# Altium schematic symbol library WP-SMRT.SchLib: 16 symbols
Pins are listed as number, name and electrical type; pins without a type are passive.

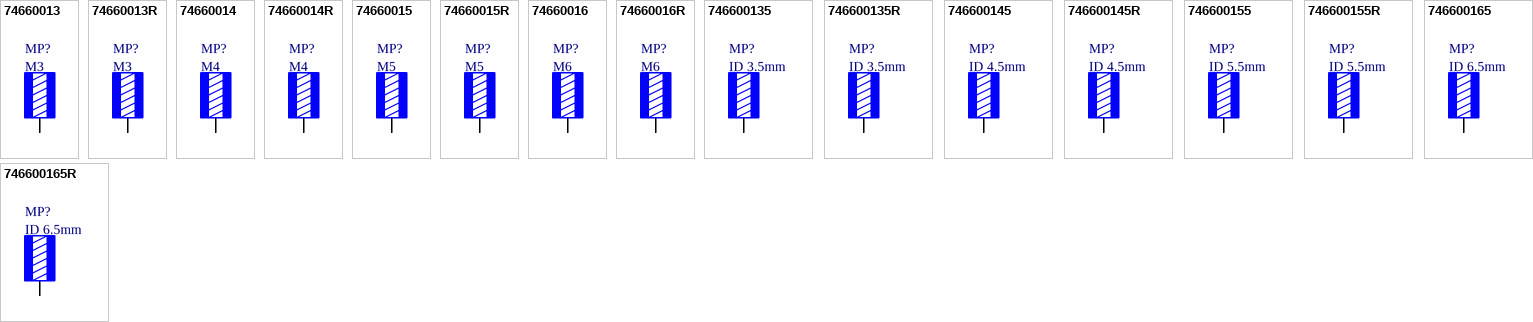
[diagram p0: symbols 74660013 to 746600165R]

## 74660013
designator MP?, comment M3
WP-SMRT REDCUBE SMT Reverse with internal thread, OD 10mm, M3, 85A; Manufacturer Part Number: 74660013; Manufacturer: Wurth Elektronik; Surface: Tin; Category: REDCUBE SMT; Match Code: WP-SMRT; ComponentLink1Description: Website Link; ComponentLink1URL: https://www.we-online.com/redexpert/article/74660013?ad; ComponentLink2Description: Datasheet Link; ComponentLink2URL: https://www.we-online.com/redexpert/spec/74660013?ad; Mount: Surface Mount; Min Operating Temperature: -55°C; Max Operating Temperature: 150°C; Packaging: Bulk; Height: 5.6mm; Material: Brass; Outer Diameter: 10mm; Rated Current: 85A; Thread Size: M3
footprint 74660013
pins: 1

## 74660013R
designator MP?, comment M3
WP-SMRT REDCUBE SMT Reverse with internal thread, OD 10mm, M3, 85A; Manufacturer Part Number: 74660013R; Manufacturer: Wurth Elektronik; Surface: Tin; Category: REDCUBE SMT; Match Code: WP-SMRT; ComponentLink1Description: Website Link; ComponentLink1URL: https://www.we-online.com/redexpert/article/74660013R?ad; ComponentLink2Description: Datasheet Link; ComponentLink2URL: https://www.we-online.com/redexpert/spec/74660013R?ad; Mount: Surface Mount; Min Operating Temperature: -55°C; Max Operating Temperature: 150°C; Packaging: Tape and Reel; Height: 5.6mm; Material: Brass; Outer Diameter: 10mm; Rated Current: 85A; Thread Size: M3
footprint 74660013
pins: 1

## 74660014
designator MP?, comment M4
WP-SMRT REDCUBE SMT Reverse with internal thread, OD 10mm, M4, 85A; Manufacturer Part Number: 74660014; Manufacturer: Wurth Elektronik; Surface: Tin; Category: REDCUBE SMT; Match Code: WP-SMRT; ComponentLink1Description: Website Link; ComponentLink1URL: https://www.we-online.com/redexpert/article/74660014?ad; ComponentLink2Description: Datasheet Link; ComponentLink2URL: https://www.we-online.com/redexpert/spec/74660014?ad; Mount: Surface Mount; Min Operating Temperature: -55°C; Max Operating Temperature: 150°C; Packaging: Bulk; Height: 5.6mm; Material: Brass; Outer Diameter: 10mm; Rated Current: 85A; Thread Size: M4
footprint 74660014
pins: 1

## 74660014R
designator MP?, comment M4
WP-SMRT REDCUBE SMT Reverse with internal thread, OD 10mm, M4, 85A; Manufacturer Part Number: 74660014R; Manufacturer: Wurth Elektronik; Surface: Tin; Category: REDCUBE SMT; Match Code: WP-SMRT; ComponentLink1Description: Website Link; ComponentLink1URL: https://www.we-online.com/redexpert/article/74660014R?ad; ComponentLink2Description: Datasheet Link; ComponentLink2URL: https://www.we-online.com/redexpert/spec/74660014R?ad; Mount: Surface Mount; Min Operating Temperature: -55°C; Max Operating Temperature: 150°C; Packaging: Tape and Reel; Height: 5.6mm; Material: Brass; Outer Diameter: 10mm; Rated Current: 85A; Thread Size: M4
footprint 74660014
pins: 1

## 74660015
designator MP?, comment M5
WP-SMRT REDCUBE SMT Reverse with internal thread, OD 10mm, M5, 85A; Manufacturer Part Number: 74660015; Manufacturer: Wurth Elektronik; Surface: Tin; Category: REDCUBE SMT; Match Code: WP-SMRT; ComponentLink1Description: Website Link; ComponentLink1URL: https://www.we-online.com/redexpert/article/74660015?ad; ComponentLink2Description: Datasheet Link; ComponentLink2URL: https://www.we-online.com/redexpert/spec/74660015?ad; Mount: Surface Mount; Min Operating Temperature: -55°C; Max Operating Temperature: 150°C; Packaging: Bulk; Height: 5.6mm; Material: Brass; Outer Diameter: 10mm; Rated Current: 85A; Thread Size: M5
footprint 74660015
pins: 1

## 74660015R
designator MP?, comment M5
WP-SMRT REDCUBE SMT Reverse with internal thread, OD 10mm, M5, 85A; Manufacturer Part Number: 74660015R; Manufacturer: Wurth Elektronik; Surface: Tin; Category: REDCUBE SMT; Match Code: WP-SMRT; ComponentLink1Description: Website Link; ComponentLink1URL: https://www.we-online.com/redexpert/article/74660015R?ad; ComponentLink2Description: Datasheet Link; ComponentLink2URL: https://www.we-online.com/redexpert/spec/74660015R?ad; Mount: Surface Mount; Min Operating Temperature: -55°C; Max Operating Temperature: 150°C; Packaging: Tape and Reel; Height: 5.6mm; Material: Brass; Outer Diameter: 10mm; Rated Current: 85A; Thread Size: M5
footprint 74660015
pins: 1

## 74660016
designator MP?, comment M6
WP-SMRT REDCUBE SMT Reverse with internal thread, OD 12mm, M6, 85A; Manufacturer Part Number: 74660016; Manufacturer: Wurth Elektronik; Surface: Tin; Category: REDCUBE SMT; Match Code: WP-SMRT; ComponentLink1Description: Website Link; ComponentLink1URL: https://www.we-online.com/redexpert/article/74660016?ad; ComponentLink2Description: Datasheet Link; ComponentLink2URL: https://www.we-online.com/redexpert/spec/74660016?ad; Mount: Surface Mount; Min Operating Temperature: -55°C; Max Operating Temperature: 150°C; Packaging: Bulk; Height: 5.6mm; Material: Brass; Outer Diameter: 12mm; Rated Current: 85A; Thread Size: M6
footprint 74660016
pins: 1

## 74660016R
designator MP?, comment M6
WP-SMRT REDCUBE SMT Reverse with internal thread, OD 12mm, M6, 85A; Manufacturer Part Number: 74660016R; Manufacturer: Wurth Elektronik; Surface: Tin; Category: REDCUBE SMT; Match Code: WP-SMRT; ComponentLink1Description: Website Link; ComponentLink1URL: https://www.we-online.com/redexpert/article/74660016R?ad; ComponentLink2Description: Datasheet Link; ComponentLink2URL: https://www.we-online.com/redexpert/spec/74660016R?ad; Mount: Surface Mount; Min Operating Temperature: -55°C; Max Operating Temperature: 150°C; Packaging: Tape and Reel; Height: 5.6mm; Material: Brass; Outer Diameter: 12mm; Rated Current: 85A; Thread Size: M6
footprint 74660016
pins: 1

## 746600135
designator MP?, comment ID 3.5mm
WP-SMRT REDCUBE SMT Reverse with internal through-hole, OD 10mm, ID 3.5mm, 85A; Manufacturer Part Number: 746600135; Manufacturer: Wurth Elektronik; Surface: Tin; Category: REDCUBE SMT; Match Code: WP-SMRT; ComponentLink1Description: Website Link; ComponentLink1URL: https://www.we-online.com/redexpert/article/746600135?ad; ComponentLink2Description: Datasheet Link; ComponentLink2URL: https://www.we-online.com/redexpert/spec/746600135?ad; Mount: Surface Mount; Min Operating Temperature: -55°C; Max Operating Temperature: 150°C; Packaging: Bulk; Height: 5.6mm; Inner Diameter: 3.5mm; Material: Brass; Outer Diameter: 10mm; Rated Current: 85A
footprint 746600135
pins: 1

## 746600135R
designator MP?, comment ID 3.5mm
WP-SMRT REDCUBE SMT Reverse with internal through-hole, OD 10mm, ID 3.5mm, 85A; Manufacturer Part Number: 746600135R; Manufacturer: Wurth Elektronik; Surface: Tin; Category: REDCUBE SMT; Match Code: WP-SMRT; ComponentLink1Description: Website Link; ComponentLink1URL: https://www.we-online.com/redexpert/article/746600135R?ad; ComponentLink2Description: Datasheet Link; ComponentLink2URL: https://www.we-online.com/redexpert/spec/746600135R?ad; Mount: Surface Mount; Min Operating Temperature: -55°C; Max Operating Temperature: 150°C; Packaging: Tape and Reel; Height: 5.6mm; Inner Diameter: 3.5mm; Material: Brass; Outer Diameter: 10mm; Rated Current: 85A
footprint 746600135
pins: 1

## 746600145
designator MP?, comment ID 4.5mm
WP-SMRT REDCUBE SMT Reverse with internal through-hole, OD 10mm, ID 4.5mm, 85A; Manufacturer Part Number: 746600145; Manufacturer: Wurth Elektronik; Surface: Tin; Category: REDCUBE SMT; Match Code: WP-SMRT; ComponentLink1Description: Website Link; ComponentLink1URL: https://www.we-online.com/redexpert/article/746600145?ad; ComponentLink2Description: Datasheet Link; ComponentLink2URL: https://www.we-online.com/redexpert/spec/746600145?ad; Mount: Surface Mount; Min Operating Temperature: -55°C; Max Operating Temperature: 150°C; Packaging: Bulk; Height: 5.6mm; Inner Diameter: 4.5mm; Material: Brass; Outer Diameter: 10mm; Rated Current: 85A
footprint 746600145
pins: 1

## 746600145R
designator MP?, comment ID 4.5mm
WP-SMRT REDCUBE SMT Reverse with internal through-hole, OD 10mm, ID 4.5mm, 85A; Manufacturer Part Number: 746600145R; Manufacturer: Wurth Elektronik; Surface: Tin; Category: REDCUBE SMT; Match Code: WP-SMRT; ComponentLink1Description: Website Link; ComponentLink1URL: https://www.we-online.com/redexpert/article/746600145R?ad; ComponentLink2Description: Datasheet Link; ComponentLink2URL: https://www.we-online.com/redexpert/spec/746600145R?ad; Mount: Surface Mount; Min Operating Temperature: -55°C; Max Operating Temperature: 150°C; Packaging: Tape and Reel; Height: 5.6mm; Inner Diameter: 4.5mm; Material: Brass; Outer Diameter: 10mm; Rated Current: 85A
footprint 746600145
pins: 1

## 746600155
designator MP?, comment ID 5.5mm
WP-SMRT REDCUBE SMT Reverse with internal through-hole, OD 10mm, ID 5.5mm, 85A; Manufacturer Part Number: 746600155; Manufacturer: Wurth Elektronik; Surface: Tin; Category: REDCUBE SMT; Match Code: WP-SMRT; ComponentLink1Description: Website Link; ComponentLink1URL: https://www.we-online.com/redexpert/article/746600155?ad; ComponentLink2Description: Datasheet Link; ComponentLink2URL: https://www.we-online.com/redexpert/spec/746600155?ad; Mount: Surface Mount; Min Operating Temperature: -55°C; Max Operating Temperature: 150°C; Packaging: Bulk; Height: 5.6mm; Inner Diameter: 5.5mm; Material: Brass; Outer Diameter: 10mm; Rated Current: 85A
footprint 746600155
pins: 1

## 746600155R
designator MP?, comment ID 5.5mm
WP-SMRT REDCUBE SMT Reverse with internal through-hole, OD 10mm, ID 5.5mm, 85A; Manufacturer Part Number: 746600155R; Manufacturer: Wurth Elektronik; Surface: Tin; Category: REDCUBE SMT; Match Code: WP-SMRT; ComponentLink1Description: Website Link; ComponentLink1URL: https://www.we-online.com/redexpert/article/746600155R?ad; ComponentLink2Description: Datasheet Link; ComponentLink2URL: https://www.we-online.com/redexpert/spec/746600155R?ad; Mount: Surface Mount; Min Operating Temperature: -55°C; Max Operating Temperature: 150°C; Packaging: Tape and Reel; Height: 5.6mm; Inner Diameter: 5.5mm; Material: Brass; Outer Diameter: 10mm; Rated Current: 85A
footprint 746600155
pins: 1

## 746600165
designator MP?, comment ID 6.5mm
WP-SMRT REDCUBE SMT Reverse with internal through-hole, OD 12mm, ID 6.5mm, 85A; Manufacturer Part Number: 746600165; Manufacturer: Wurth Elektronik; Surface: Tin; Category: REDCUBE SMT; Match Code: WP-SMRT; ComponentLink1Description: Website Link; ComponentLink1URL: https://www.we-online.com/redexpert/article/746600165?ad; ComponentLink2Description: Datasheet Link; ComponentLink2URL: https://www.we-online.com/redexpert/spec/746600165?ad; Mount: Surface Mount; Min Operating Temperature: -55°C; Max Operating Temperature: 150°C; Packaging: Bulk; Height: 5.6mm; Inner Diameter: 6.5mm; Material: Brass; Outer Diameter: 12mm; Rated Current: 85A
footprint 746600165
pins: 1

## 746600165R
designator MP?, comment ID 6.5mm
WP-SMRT REDCUBE SMT Reverse with internal through-hole, OD 12mm, ID 6.5mm, 85A; Manufacturer Part Number: 746600165R; Manufacturer: Wurth Elektronik; Surface: Tin; Category: REDCUBE SMT; Match Code: WP-SMRT; ComponentLink1Description: Website Link; ComponentLink1URL: https://www.we-online.com/redexpert/article/746600165R?ad; ComponentLink2Description: Datasheet Link; ComponentLink2URL: https://www.we-online.com/redexpert/spec/746600165R?ad; Mount: Surface Mount; Min Operating Temperature: -55°C; Max Operating Temperature: 150°C; Packaging: Tape and Reel; Height: 5.6mm; Inner Diameter: 6.5mm; Material: Brass; Outer Diameter: 12mm; Rated Current: 85A
footprint 746600165
pins: 1